# Altium schematic symbol library Connectors-USB.SchLib: 6 symbols
Pins are listed as number, name and electrical type; pins without a type are passive.

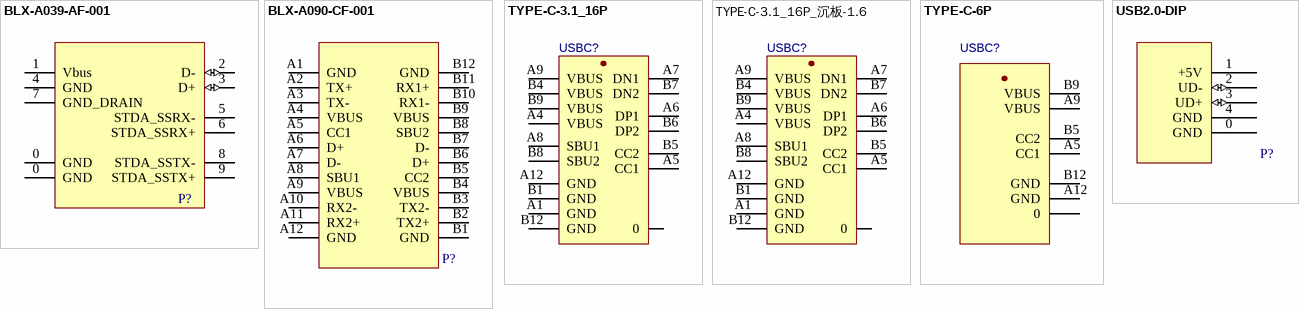
[diagram p0: symbols BLX-A039-AF-001 to USB2.0-DIP]

## BLX-A039-AF-001
designator P?
pins: 0 GND (power), 0 GND (power), 1 Vbus (power), 2 D- (io), 3 D+ (io), 4 GND (power), 5 STDA_SSRX- (power), 6 STDA_SSRX+ (power), 7 GND_DRAIN (power), 8 STDA_SSTX- (power), 9 STDA_SSTX+ (power)

## BLX-A090-CF-001
designator P?
pins: A1 GND (power), A2 TX+ (power), A3 TX- (power), A4 VBUS (power), A5 CC1 (power), A6 D+ (power), A7 D- (power), A8 SBU1, A9 VBUS, A10 RX2-, A11 RX2+, A12 GND, B1 GND, B2 TX2+, B3 TX2-, B4 VBUS, B5 CC2, B6 D+, B7 D-, B8 SBU2, B9 VBUS, B10 RX1-, B11 RX1+, B12 GND

## TYPE-C-3.1_16P
designator USBC?
pins: 0, A1 GND, A4 VBUS, A5 CC1, A6 DP1, A7 DN1, A8 SBU1, A9 VBUS, A12 GND, B1 GND, B4 VBUS, B5 CC2, B6 DP2, B7 DN2, B8 SBU2, B9 VBUS, B12 GND

## TYPE-C-3.1_16P_沉板-1.6
designator USBC?
pins: 0, A1 GND, A4 VBUS, A5 CC1, A6 DP1, A7 DN1, A8 SBU1, A9 VBUS, A12 GND, B1 GND, B4 VBUS, B5 CC2, B6 DP2, B7 DN2, B8 SBU2, B9 VBUS, B12 GND

## TYPE-C-6P
designator USBC?
pins: 0, A5 CC1, A9 VBUS, A12 GND, B5 CC2, B9 VBUS, B12 GND

## USB2.0-DIP
designator P?
pins: 0 GND (power), 1 +5V (power), 2 UD- (io), 3 UD+ (io), 4 GND (power)